# EAGLE library part MSP430G2231 (library sequential_turn_signal)
The Texas Instruments MSP430 family of ultra-low-power microcontrollers consists of several devices featuring different sets of peripherals targeted for various applications. The architecture, combined with five low-power modes, is optimized to achieve extended battery life in portable measurement applications. The device features a powerful 16-bit RISC CPU, 16-bit registers, and constant generators that contribute to maximum code efficiency. The digitally controlled oscillator (DCO) allows wake-up from low-power modes to active mode in less than 1 µs. The MSP430G2x21/G2x31 series is an ultra-low-power mixed signal microcontroller with a built-in 16-bit timer and ten I/O pins. The MSP430G2x31 family members have a 10-bit A/D converter and built-in communication capability using synchronous protocols (SPI or I2C). Typical applications include low-cost sensor systems that capture analog signals, convert them to digital values, and then process the data for display or for transmission to a host system.
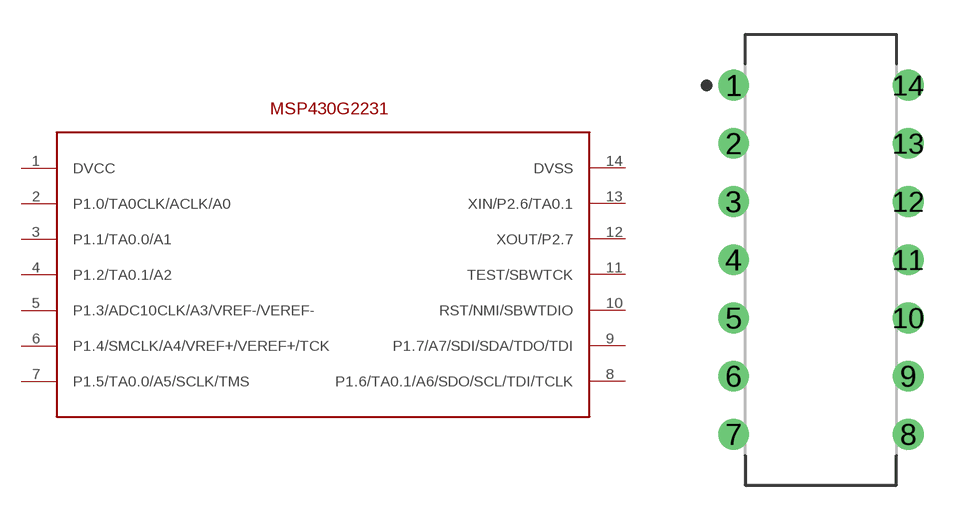
[diagram p0: symbol with the pads of DIP762W53P254L1969H508Q14B; footprint DIP762W53P254L1969H508Q14B]

Designator prefix -

## MSP430G2231PDIP14  [DIP762W53P254L1969H508Q14B]
1  DVCC
2  P1.0/TA0CLK/ACLK/A0
3  P1.1/TA0.0/A1
4  P1.2/TA0.1/A2
5  P1.3/ADC10CLK/A3/VREF-/VEREF-
6  P1.4/SMCLK/A4/VREF+/VEREF+/TCK
7  P1.5/TA0.0/A5/SCLK/TMS
8  P1.6/TA0.1/A6/SDO/SCL/TDI/TCLK
9  P1.7/A7/SDI/SDA/TDO/TDI
10  RST/NMI/SBWTDIO
11  TEST/SBWTCK
12  XOUT/P2.7
13  XIN/P2.6/TA0.1
14  DVSS

## Footprint DIP762W53P254L1969H508Q14B (pad centres in mm)
14-DIP, 2.54 mm (0.10 in) pitch, 7.62 mm (0.30 in) span, 19.69 X 6.60 X 5.08 mm body 14-pin DIP package with 2.54 mm (0.10 in) pitch, 7.62 mm (0.30 in) span with body size 19.69 X 6.60 X 5.08 mm
drill 0.743 pad 1.343: 1 -3.81,7.62; 2 -3.81,5.08; 3 -3.81,2.54; 4 -3.81,0; 5 -3.81,-2.54; 6 -3.81,-5.08; 7 -3.81,-7.62; 8 3.81,-7.62; 9 3.81,-5.08; 10 3.81,-2.54; 11 3.81,0; 12 3.81,2.54; 13 3.81,5.08; 14 3.81,7.62